# EAGLE library part SWITCH_4WAY_TPA511GLFS (library microbuilder)
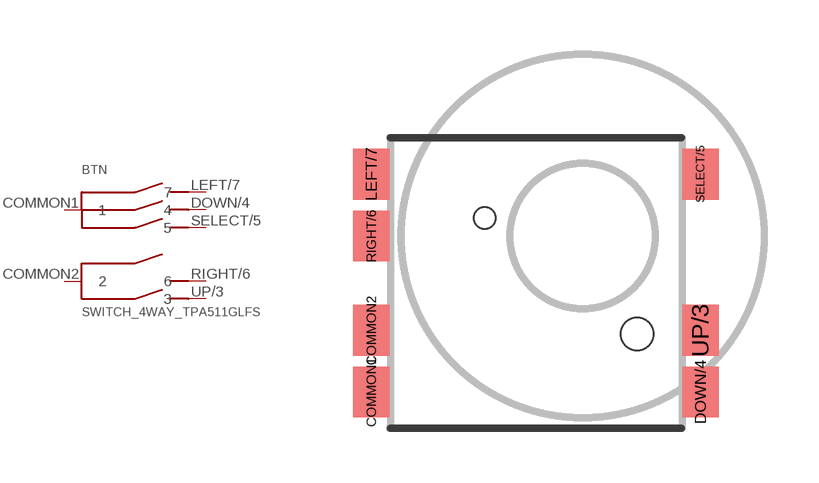
[diagram p176: symbol with the pads of SWITCH_4WAY_TPA511GLFS; footprint SWITCH_4WAY_TPA511GLFS]

Designator prefix BTN

## SWITCH_4WAY_TPA511GLFS  [SWITCH_4WAY_TPA511GLFS]
COMMON1  1
COMMON2  2
DOWN/4  4
LEFT/7  7
RIGHT/6  6
SELECT/5  5
UP/3  3

## Footprint SWITCH_4WAY_TPA511GLFS (pad centres in mm)
smd 1 x 1.4: COMMON1 -5.825,-4.3; COMMON2 -5.825,-2.6; DOWN/4 3.25,-4.3; LEFT/7 -5.825,1.7; RIGHT/6 -5.825,0; SELECT/5 3.25,1.7; UP/3 3.25,-2.6
hole 0.6 at -2.7,0.5
hole 0.9 at 1.5,-2.7